# EAGLE library part LTC3533 (library linear-tech-3)
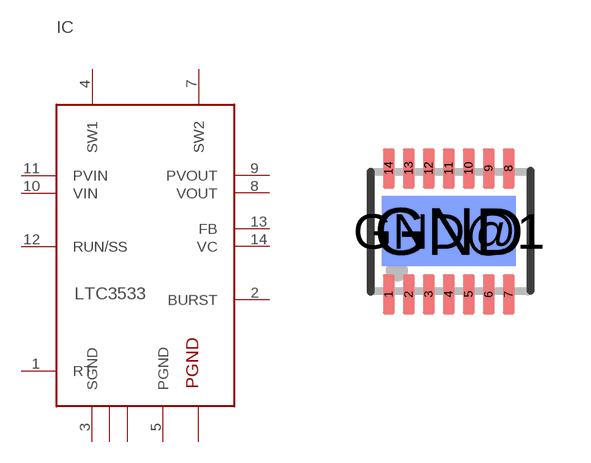
[diagram p52: symbol with the pads of DFN14; footprint DFN14]

Designator prefix IC

## LTC3533DE  [DFN14]
1  RT
2  BURST
3  SGND  pwr
4  SW1  pwr
5  PGND  pwr
6  PGND  pwr
7  SW2
8  VOUT  out
9  PVOUT
10  VIN  in
11  PVIN
12  RUN/SS
13  FB
14  VC  in
GND  GND  pwr
GND@1  GND  pwr

## Footprint DFN14 (pad centres in mm)
smd 0.3 x 1: 1 -1.5,-1.377; 2 -1,-1.377; 3 -0.5,-1.377; 4 0,-1.377; 5 0.5,-1.377; 6 1,-1.377; 7 1.5,-1.377; 8 1.5,1.777; 9 1,1.777; 10 0.5,1.777; 11 0,1.777; 12 -0.5,1.777; 13 -1,1.777; 14 -1.5,1.777
smd 3.35 x 1.75: GND 0,0.21
smd 3.35 x 1.75 bottom: GND@1 0,0.205